# Altium footprint library con-lemo.PCBLIB: 34 footprints (part 3 of 3)
Each footprint in its own frame and in the unit in brackets; x right, y up, seen from the top. Pads: shape width x height; smd on the part's side, far side on the other; paste and mask are expansions set on the pad; w line width, h text height; cw(c..) or ccw(c..) is an arc to the next point about the centre after c.
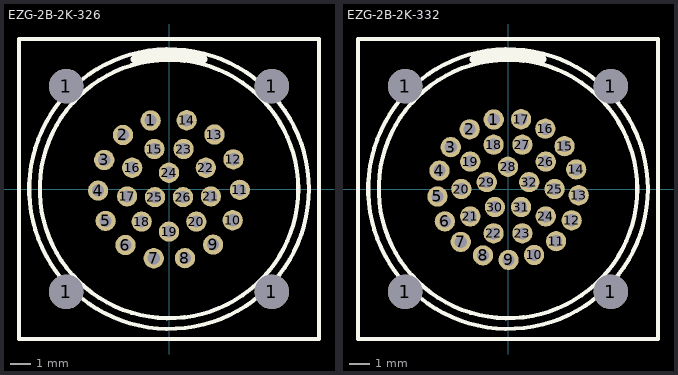
[diagram p2: the footprints below, top view; thin cyan lines are the x and y axes]

## EZG-2B-2K-326 [mm]
pads (30):
  round 1.7 hole 1.7: 1(-5.08,-5.08) 1(-5.08,5.08) 1(5.08,-5.08) 1(5.08,5.08)
  round 1 hole 0.6: 1(-0.906,3.381) 2(-2.27,2.664) 3(-3.194,1.431) 4(-3.499,-0.079) 5(-3.126,-1.574) 6(-2.148,-2.764) 7(-0.753,-3.418) 8(0.788,-3.41) 9(2.176,-2.741) 10(3.142,-1.542) 11(3.5,-0.043) 12(3.179,1.464) 13(2.242,2.687) 14(0.871,3.39) 15(-0.718,1.973) 16(-1.819,1.05) 17(-2.068,-0.364) 18(-1.35,-1.609) 19(0,-2.1) 20(1.35,-1.609) 21(2.068,-0.364) 22(1.819,1.05) 23(0.718,1.973) 24(0,0.8) 25(-0.693,-0.4) 26(0.693,-0.4)
Top Overlay:
  circle w0.203: c0,0 r6.9
  circle w0.203: c0,0 r6.376
  lines w0.203: -7.4,-7.4 7.4,-7.4 7.4,7.4 -7.4,7.4 -7.4,-7.4
  lines w0.4: -1.7,6.4 cw(c0,0.756) 1.7,6.4
Mechanical 16:
  circle w0.203: c-0.906,3.381 r0.198
  circle w0.203: c-2.27,2.664 r0.198
  circle w0.203: c-3.194,1.431 r0.198
  circle w0.203: c-3.499,-0.079 r0.198
  circle w0.203: c-3.126,-1.574 r0.198
  circle w0.203: c-2.148,-2.764 r0.198
  circle w0.203: c-0.753,-3.418 r0.198
  circle w0.203: c0.788,-3.41 r0.198
  circle w0.203: c2.176,-2.741 r0.198
  circle w0.203: c3.142,-1.542 r0.198
  circle w0.203: c3.5,-0.043 r0.198
  circle w0.203: c3.179,1.464 r0.198
  circle w0.203: c2.242,2.687 r0.198
  circle w0.203: c0.871,3.39 r0.198
  circle w0.203: c-0.718,1.973 r0.198
  circle w0.203: c-1.819,1.05 r0.198
  circle w0.203: c-2.068,-0.364 r0.198
  circle w0.203: c-1.35,-1.609 r0.198
  circle w0.203: c0,-2.1 r0.198
  circle w0.203: c1.35,-1.609 r0.198
  circle w0.203: c2.068,-0.364 r0.198
  circle w0.203: c1.819,1.05 r0.198
  circle w0.203: c0.718,1.973 r0.198
  circle w0.203: c0,0.8 r0.198
  circle w0.203: c-0.693,-0.4 r0.198
  circle w0.203: c0.693,-0.4 r0.198

## EZG-2B-2K-332 [mm]
pads (36):
  round 1.7 hole 1.7: 1(-5.08,-5.08) 1(-5.08,5.08) 1(5.08,-5.08) 1(5.08,5.08)
  round 1 hole 0.6: 1(-0.704,3.428) 2(-1.891,2.945) 3(-2.825,2.066) 4(-3.38,0.91) 5(-3.481,-0.368) 6(-3.114,-1.597) 7(-2.33,-2.612) 8(-1.233,-3.276) 9(0.029,-3.5) 10(1.288,-3.255) 11(2.373,-2.572) 12(3.141,-1.545) 13(3.486,-0.31) 14(3.364,0.966) 15(2.79,2.113) 16(1.842,2.976) 17(0.646,3.44) 18(-0.711,2.187) 19(-1.861,1.352) 20(-2.3,0) 21(-1.861,-1.352) 22(-0.711,-2.187) 23(0.711,-2.187) 24(1.861,-1.352) 25(2.3,0) 26(1.861,1.352) 27(0.711,2.187) 28(0,1.1) 29(-1.046,0.34) 30(-0.647,-0.89) 31(0.647,-0.89) 32(1.046,0.34)
Top Overlay:
  circle w0.203: c0,0 r6.9
  circle w0.203: c0,0 r6.376
  lines w0.203: -7.4,-7.4 7.4,-7.4 7.4,7.4 -7.4,7.4 -7.4,-7.4
  lines w0.4: -1.7,6.4 cw(c0,0.756) 1.7,6.4
Mechanical 16:
  circle w0.203: c-0.704,3.428 r0.198
  circle w0.203: c-1.891,2.945 r0.198
  circle w0.203: c-2.825,2.066 r0.198
  circle w0.203: c-3.38,0.91 r0.198
  circle w0.203: c-3.481,-0.368 r0.198
  circle w0.203: c-3.114,-1.597 r0.198
  circle w0.203: c-2.33,-2.612 r0.198
  circle w0.203: c-1.233,-3.276 r0.198
  circle w0.203: c0.029,-3.5 r0.198
  circle w0.203: c1.288,-3.255 r0.198
  circle w0.203: c2.373,-2.572 r0.198
  circle w0.203: c3.141,-1.545 r0.198
  circle w0.203: c3.486,-0.31 r0.198
  circle w0.203: c3.364,0.966 r0.198
  circle w0.203: c2.79,2.113 r0.198
  circle w0.203: c1.842,2.976 r0.198
  circle w0.203: c0.646,3.44 r0.198
  circle w0.203: c-0.711,2.187 r0.198
  circle w0.203: c-1.861,1.352 r0.198
  circle w0.203: c-2.3,0 r0.198
  circle w0.203: c-1.861,-1.352 r0.198
  circle w0.203: c-0.711,-2.187 r0.198
  circle w0.203: c0.711,-2.187 r0.198
  circle w0.203: c1.861,-1.352 r0.198
  circle w0.203: c2.3,0 r0.198
  circle w0.203: c1.861,1.352 r0.198
  circle w0.203: c0.711,2.187 r0.198
  circle w0.203: c0,1.1 r0.198
  circle w0.203: c-1.046,0.34 r0.198
  circle w0.203: c-0.647,-0.89 r0.198
  circle w0.203: c0.647,-0.89 r0.198
  circle w0.203: c1.046,0.34 r0.198